# Altium footprint library LED_Yollew.PcbLib: 1 footprints
Each footprint in its own frame and in the unit in brackets; x right, y up, seen from the top. Pads: shape width x height; smd on the part's side, far side on the other; paste and mask are expansions set on the pad; w line width, h text height; cw(c..) or ccw(c..) is an arc to the next point about the centre after c.
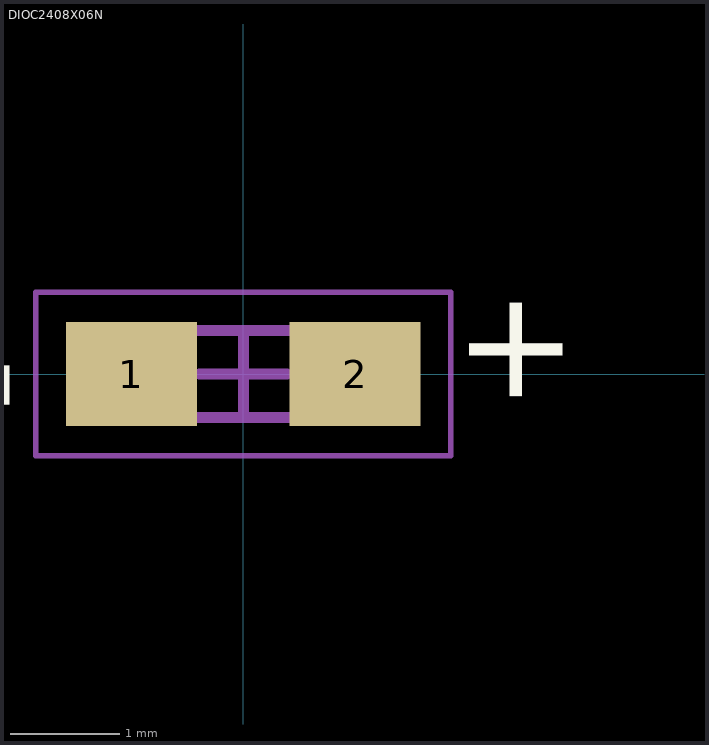
[diagram p0: the footprint, top view; thin cyan lines are the x and y axes]

## DIOC2408X06N [mm] "Chip Diode, 2-Leads, Body 2,40x0,80mm, IPC Medium Density"
height 0.6
pads (2):
  rect 1.2x0.95 smd: 1(-1.025,0) 2(1.025,0)
Top Overlay:
  text "-" at -1.819,-0.348 h1
  text "+" at 2.928,-0.348 h1
Mechanical 13:
  lines w0.1: -1.2,-0.4 -1.2,0.4 1.2,0.4 1.2,-0.4 -1.2,-0.4
Mechanical 15:
  lines w0.05: -1.9,-0.75 -1.9,0.75 1.9,0.75 1.9,-0.75 -1.9,-0.75
  lines w0.1: -0.4,0 0.4,0 ; 0,-0.4 0,0.4
3D body: height 0.6, standoff 0, extent -0.5,-0.4 0.5,0.4
3D body: height 0.6, standoff 0, extent -1.2,-0.4 -0.5,0.4
3D body: height 0.6, standoff 0, extent 0.5,-0.4 1.2,0.4